# Altium footprint library L23.PcbLib: 56 footprints (part 1 of 4)
Each footprint in its own frame and in the unit in brackets; x right, y up, seen from the top. Pads: shape width x height; smd on the part's side, far side on the other; paste and mask are expansions set on the pad; w line width, h text height; cw(c..) or ccw(c..) is an arc to the next point about the centre after c.
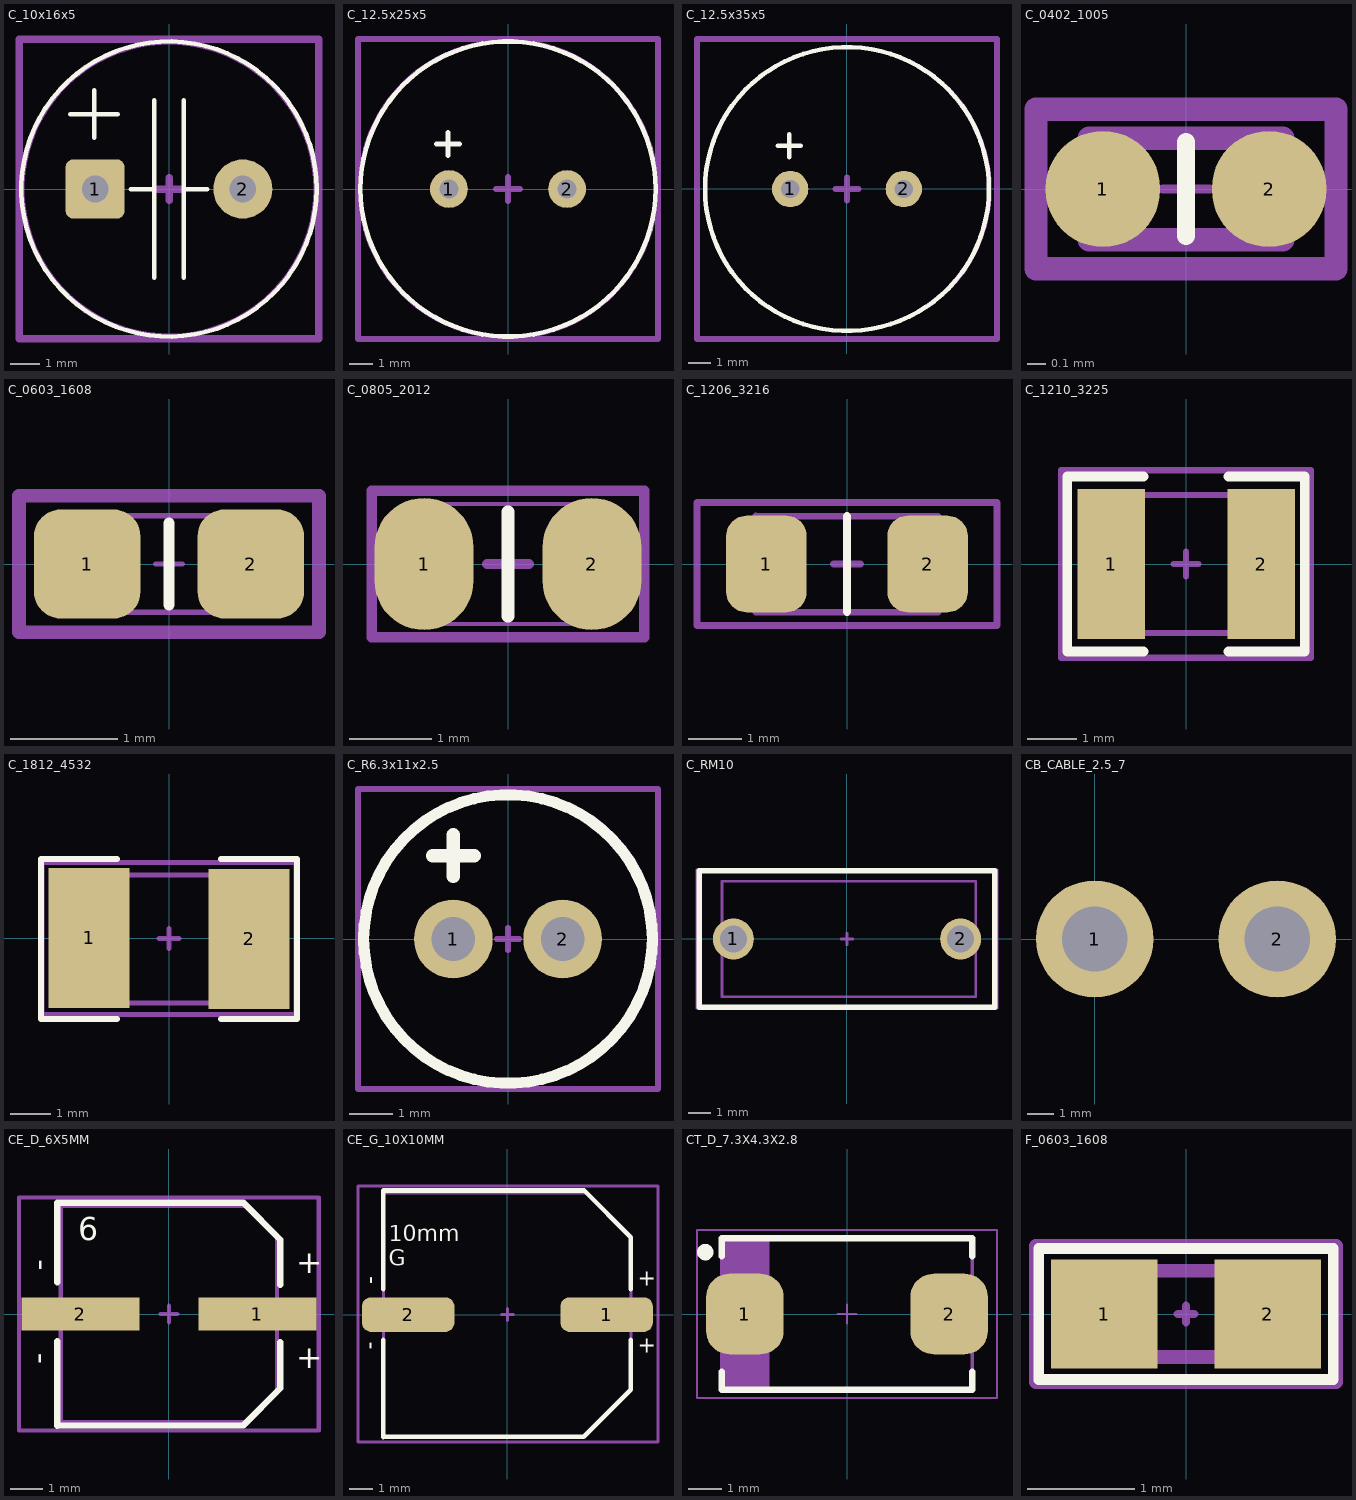
[diagram p0: the footprints below, top view; thin cyan lines are the x and y axes]

## C_10x16x5 [mm]
pads (2):
  rrect25% 2x2 hole 0.9: 1(-2.5,0)
  round 2 hole 0.9: 2(2.5,0)
Top Overlay:
  circle w0.152: c0,0 r5
  lines w0.152: -3.34,2.54 -1.74,2.54 ; -2.54,1.74 -2.54,3.34 ; -1.3,0 -0.5,0 ; -0.5,-3 -0.5,3 ; 0.5,-3 0.5,3 ; 0.5,0 1.3,0
Mechanical 13:
  circle w0.127: c0,-0.003 r4.953
Mechanical 15:
  lines w0.254: -0.381,0 0.381,0 0,0 ; 0,0.381 0,0 ; 0,0 0,-0.381 0,0 ; -5.08,-5.08 -5.08,5.08 5.08,5.08 5.08,-5.08 -5.08,-5.08
Mechanical 17:
  text "'.Designator'" at -3.81,-4.318 h1
3D body "ElectroCap20x10mm.stp": height 20, standoff -3.5, extent -4.958,-4.968 4.953,4.961

## C_12.5x25x5 [mm]
pads (2):
  round 1.6 hole 0.8: 1(-2.5,0) 2(2.5,0)
Top Overlay:
  circle w0.2: c0,0 r6.25
  lines w0.2: -3.04,1.905 -2.04,1.905 ; -2.54,1.405 -2.54,2.405
Mechanical 13:
  circle w0.127: c0,0 r6.307
Mechanical 15:
  lines w0.254: -0.508,0 0.508,0 ; 0,-0.508 0,0.508 ; -6.35,-6.35 -6.35,6.35 6.35,6.35 6.35,-6.35 -6.35,-6.35
Mechanical 17:
  text "'.Designator'" at -6.096,-0.254 h1
3D body "User Library-Cap-EL(12_5x25-5)T.step": height 25.5, standoff -3.5, extent -6.25,-6.25 6.252,6.25

## C_12.5x35x5 [mm]
pads (2):
  round 1.6 hole 0.8: 1(-2.5,0) 2(2.5,0)
Top Overlay:
  circle w0.2: c0,0 r6.25
  lines w0.2: -3.04,1.905 -2.04,1.905 ; -2.54,1.405 -2.54,2.405
Mechanical 13:
  circle w0.127: c0.04,0 r6.267
Mechanical 15:
  lines w0.254: -0.508,0 0.508,0 ; 0,-0.508 0,0.508 ; -6.604,-6.604 -6.604,6.604 6.604,6.604 6.604,-6.604 -6.604,-6.604
Mechanical 17:
  text "'.Designator'" at -6.858,-0.762 h1.52
Mechanical 19:
  text "'.Comment'" at -6.858,-0.762 h1.52
3D body "User Library-CapAluRadial_D125H350.STEP": height 37, standoff -3, extent -6.46,-6.496 6.54,6.496

## C_0402_1005 [mm]
pads (2):
  oval 0.62x0.63 smd mask+0.05: 1(-0.45,0) 2(0.45,0)
Top Overlay:
  lines w0.1: 0,-0.254 0,0.254
Assembly Top:
  lines w0.127: -0.525,-0.275 -0.525,0.275 0.525,0.275 0.525,-0.275 -0.525,-0.275
Courtyard Top:
  lines w0.051: -0.127,0 0.127,0 ; 0,-0.127 0,0.127
  lines w0.127: -0.813,-0.432 -0.813,0.432 0.813,0.432 0.813,-0.432 -0.813,-0.432
3D body "CAP 0402 (1005 metric).STEP": height 0.55, standoff 0, extent -0.525,-0.275 0.525,0.275

## C_0603_1608 [mil]
pads (2):
  rrect50% 39x40 smd mask+3.94: 1(-30,0) 2(30,0)
Top Overlay:
  lines w3.94: 0,-15 0,15
Assembly Top:
  lines w2: -33.46,-17.71 -33.46,17.72 33.47,17.72 33.47,-17.71 -33.46,-17.71
Courtyard Top:
  lines w2: -4.92,0 4.92,0 ; 0,-4.92 0,4.92
  lines w5: -55,-25 -55,25 55,25 55,-25 -55,-25
3D body "CAP_0603.STEP": height 34.92, standoff -0.51, extent -33.46,-17.71 33.47,17.72

## C_0805_2012 [mm]
pads (2):
  oval 1.2x1.6 smd mask+0.1: 1(-1.016,0) 2(1.016,0)
Top Overlay:
  lines w0.152: 0,-0.635 0,0.635
Assembly Top:
  lines w0.051: -1.1,-0.725 1.1,-0.725 1.1,0.725 -1.1,0.725 -1.1,-0.725
Courtyard Top:
  lines w0.127: -0.254,0 0.254,0 ; 0,-0.254 0,0.254 ; -1.651,-0.889 1.651,-0.889 1.651,0.889 -1.651,0.889 -1.651,-0.889
3D body "CAP_0805.STEP": height 1.34, standoff -0.01, extent -1.1,-0.725 1.1,0.725

## C_1206_3216 [mm]
pads (2):
  rrect50% 1.5x1.8 smd: 1(-1.5,0) 2(1.5,0)
Top Overlay:
  lines w0.152: 0,-0.889 0,0.889
Mechanical 13:
  lines w0.127: -1.7,0.889 1.7,0.889 1.7,-0.9 -1.7,-0.9 -1.7,0.9
Mechanical 15:
  lines w0.127: -0.254,0 0.254,0 ; 0,-0.254 0,0.254 ; -2.794,-1.143 2.794,-1.143 2.794,1.143 -2.794,1.143 -2.794,-1.143
Mechanical 17:
  text "'.Designator'" at -2.413,-0.127 h0.38
3D body "CAPC3216X100N - 1206 (3216 metric).STEP": height 1, standoff 0, extent -1.7,-0.9 1.7,0.9

## C_1210_3225 [mil]
pads (2):
  rect 54x120 smd: 1(-60,0) 2(60,0)
Top Overlay:
  lines w7.87: -34,-70 -95,-70 -95,70 -34,70 ; 34,-70 95,-70 95,70 34,70
Mechanical 13:
  lines w5: -71.85,-55.11 -71.85,55.12 69.89,55.12 69.89,-55.11 -71.85,-55.11
Mechanical 15:
  lines w5: -10,0 10,0 ; 0,-10 0,10 ; -100,-75 -100,75 100,75 100,-75 -100,-75
Mechanical 17:
  text "'.Designator'" at -60,0 h11.81
3D body "CAP_1210.STEP": height 86.1, standoff -0.51, extent -71.85,-55.11 69.89,55.12

## C_1812_4532 [mm]
pads (2):
  rect 2.032x3.5 smd mask+0.102: 1(-2,0.012) 2(2,-0.012)
Top Overlay:
  lines w0.152: -1.3,1.987 -3.205,1.987 -3.2,-2.013 -1.295,-2.013 ; 1.295,-2.013 3.2,-2.013 3.2,1.987 1.295,1.987
Mechanical 13:
  lines w0.127: -2.396,-1.613 -2.396,1.587 2.104,1.587 2.104,-1.613 -2.396,-1.613
Mechanical 15:
  lines w0.127: -0.254,0 0.254,0 ; 0,-0.254 0,0.254 ; -3.175,-1.905 -3.175,1.905 3.175,1.905 3.175,-1.905 -3.175,-1.905
Mechanical 17:
  text "'.Designator'" at -2.286,-0.127 h0.38
3D body "User Library-CAPC4532X13.step": height 1.3, standoff 0, extent -2.396,-1.613 2.104,1.587

## C_R6.3x11x2.5 [mm]
pads (2):
  round 1.8 hole 1: 1(-1.25,0) 2(1.25,0)
Top Overlay:
  circle w0.254: c0,0 r3.3
  lines w0.305: -1.725,1.905 -0.775,1.905 ; -1.25,1.43 -1.25,2.38
Mechanical 13:
  lines w0.127: 3.367,0 ccw(c0.02,0) 3.367,0
Mechanical 15:
  lines w0.127: -0.254,0 0.254,0 ; 0,-0.254 0,0.254 ; -3.429,-3.429 -3.429,3.429 3.429,3.429 3.429,-3.429 -3.429,-3.429
Mechanical 17:
  text "'.Designator'" at -3.302,-0.254 h0.51
Mechanical 19:
  text "'.Comment'" at -3.302,-0.254 h0.51
3D body "User Library-CapAluRadial_D63H110.STEP": height 12.5, standoff -3, extent -3.38,-3.399 3.42,3.399

## C_RM10 [mm]
pads (2):
  round 1.8 hole 1.2: 1(-5,0) 2(5,0)
Top Overlay:
  lines w0.254: -6.5,-3 6.5,-3 6.5,3 -6.5,3 -6.5,-3
Mechanical 1:
  lines w0.127: -5.508,-2.54 -5.508,2.54 5.668,2.54 5.668,-2.54 -5.508,-2.54
Mechanical 15:
  lines w0.127: -0.254,0 0.254,0 ; 0,-0.254 0,0.254 ; -6.604,-3.048 -6.604,3.048 6.604,3.048 6.604,-3.048 -6.604,-3.048
Mechanical 17:
  text "'.Designator'" at -5.461,-2.159 h0.51
Mechanical 19:
  text "'.Comment'" at -5.461,-2.159 h0.51
3D body "User Library-capacitor 10mm pitch.step": height 12.5, standoff -4, extent -5.42,-2.5 5.58,2.5

## CB_CABLE_2.5_7 [mm]
pads (2):
  round 4.5 hole 2.5: 1(0,0) 2(7,0)

## CE_D_6X5MM [mm]
pads (2):
  rect 3.6x1 smd: 1(2.7,0) 2(-2.7,0)
Top Overlay:
  lines w0.2: -3.4,-0.83 -3.404,-3.404 2.267,-3.4 3.4,-2.267 3.4,-0.86 ; -3.4,0.97 -3.4,3.4 2.267,3.4 3.4,2.267 3.4,0.9
  text "6" at -2.76,2.25 h0.7
  text "+" at 3.88,1.25 h0.7
  text "+" at 3.88,-1.66 h0.7
  text "-" at -3.65,1.32 h0.7
  text "-" at -3.66,-1.53 h0.7
Mechanical 13:
  lines w0.127: -3.298,-3.3 2.415,-3.3 3.302,-2.413 3.302,2.413 2.415,3.3 -3.298,3.3 -3.298,-3.3
Mechanical 15:
  lines w0.127: -0.254,0 0.254,0 ; 0,-0.254 0,0.254 ; -4.572,-3.556 4.572,-3.556 4.572,3.556 -4.572,3.556 -4.572,-3.556
Mechanical 17:
  text "'.Designator'" at -3.302,-2.54 h0.51
3D body "Cap, elec, 6.3x4.2.STEP": height 4.23, standoff 0, extent -3.298,-3.3 3.302,3.3

## CE_G_10X10MM [mm] "Electrolytic Capacitor 10mm Diamater"
height 10
pads (2):
  rrect50% 4x1.5 smd: 1(4.3,0) 2(-4.3,0)
Top Overlay:
  lines w0.2: -5.378,-1.1 -5.384,-5.304 3.302,-5.298 5.35,-3.25 5.35,-1.1 ; -5.375,1.1 -5.375,5.375 3.325,5.375 5.35,3.35 5.35,1.1
  text "-" at -5.66,-1.53 h0.7
  text "-" at -5.65,1.32 h0.7
  text "+" at 5.655,-1.66 h0.7
  text "+" at 5.655,1.25 h0.7
  text "10mm / G" at -5.15,2.125 h0.7
Assembly Top:
  lines w0.127: -5.378,-5.304 -5.378,5.275 3.45,5.275 5.35,3.375 5.35,-3.25 3.296,-5.304 -5.378,-5.304
Courtyard Top:
  lines w0.127: -0.254,0 0.254,0 ; 0,-0.254 0,0.254 ; -6.475,-5.525 -6.475,5.575 6.525,5.575 6.525,-5.525 -6.475,-5.525
3D body "User Library-ALU-G13.step": height 14, standoff 0, extent -6.15,-5.25 6.15,5.25

## CT_D_7.3X4.3X2.8 [mm] "Capacitor, Polarized, Molded  Body 7.3x4.3mm, IPC Medium Density"
height 3.1
pads (2):
  rrect60% 2.35x2.45 smd mask+0.05: 1(-3.1,0) 2(3.1,0)
Top Overlay:
  circle w0.25: c-4.3,1.875 r0.125
  lines w0.2: -3.8,-1.75 -3.8,-2.3 3.8,-2.3 3.8,-1.75 ; -3.8,1.75 -3.8,2.3 3.8,2.3 3.8,1.75
Mechanical 14:
  lines w0.1: -3.75,-2.3 -3.75,2.3 ; -3.675,-2.3 -3.675,2.3 ; -3.6,-2.3 -3.6,2.3 ; -3.525,-2.3 -3.525,2.3 ; -3.45,-2.3 -3.45,2.3 ; -3.375,-2.3 -3.375,2.3 ; -3.3,-2.3 -3.3,2.3 ; -3.225,-2.3 -3.225,2.3 ; -3.15,-2.3 -3.15,2.3 ; -3.075,-2.3 -3.075,2.3 ; -3,-2.3 -3,2.3 ; -2.925,-2.3 -2.925,2.3 ; -2.85,-2.3 -2.85,2.3 ; -2.775,-2.3 -2.775,2.3 ; -2.7,-2.3 -2.7,2.3 ; -2.625,-2.3 -2.625,2.3 ; -2.55,-2.3 -2.55,2.3 ; -2.475,-2.3 -2.475,2.3 ; -2.4,-2.3 -2.4,2.3 ; -3.8,-2.3 3.8,-2.3 3.8,2.3 -3.8,2.3 -3.8,-2.3
Mechanical 15:
  lines w0.05: -0.3,0 0.3,0 ; 0,-0.3 0,0.3 ; -4.55,-2.55 4.55,-2.55 4.55,2.55 -4.55,2.55 -4.55,-2.55
3D body "CAPMP7343X310N.stp": height 3.1, standoff 0, extent -3.8,-2.3 3.8,2.3

## F_0603_1608 [mil]
pads (2):
  rect 39x40 smd: 1(-30,0) 2(30,0)
Top Overlay:
  lines w3.94: -54,-24.12 -54,24 54,24 54,-24 -54,-24
Mechanical 13:
  lines w5: -31.49,-15.79 31.5,-15.79 31.5,15.79 -31.49,15.79 -31.49,-15.79
Mechanical 15:
  lines w3: -3,0 3,0 ; 0,-3 0,3
  lines w5: -55,-25 55,-25 55,25 -55,25 -55,-25
Mechanical 17:
  text "'.Designator'" at -35,-10 h10
Mechanical 19:
  text "'.Comment'" at -35,-10 h10
3D body "User Library-Fuse0603.step": height 31.54, standoff -0.04, extent -31.49,-15.79 31.5,15.79